# Altium footprint library BAT54JFILM.PcbLib: 2 footprints
Each footprint in its own frame and in the unit in brackets; x right, y up, seen from the top. Pads: shape width x height; smd on the part's side, far side on the other; paste and mask are expansions set on the pad; w line width, h text height; cw(c..) or ccw(c..) is an arc to the next point about the centre after c.
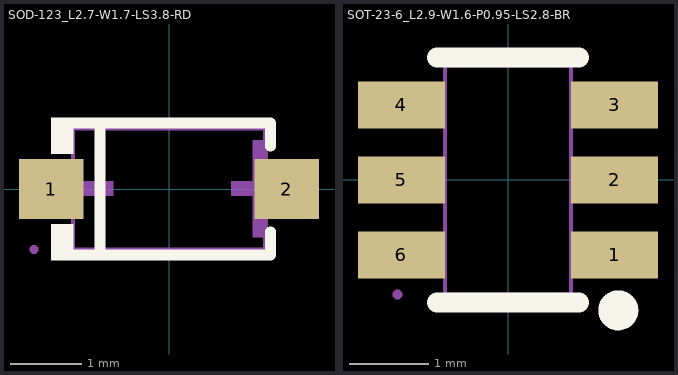
[diagram p0: the footprints below, top view; thin cyan lines are the x and y axes]

## SOD-123_L2.7-W1.7-LS3.8-RD [mm]
pads (2):
  rect 0.91x0.84 smd mask+0.102: 1(-1.655,0) 2(1.655,0)
Top Overlay:
  region: -1.35,-0.496 -1.655,-0.496 -1.655,-1.002 -1.35,-1.002
  region: -1.35,0.496 -1.655,0.496 -1.655,1.002 -1.35,1.002
  lines w0.152: -1.426,-0.926 1.426,-0.926 1.426,-0.6 ; -1.426,0.926 1.426,0.926 1.426,0.6 ; -0.971,-0.926 -0.971,0.926
Mechanical 6:
  region: -1.602,0.107 -1.602,-0.097 -0.786,-0.097 -0.786,0.107
  region: 1.386,0.685 1.386,-0.675 1.182,-0.675 1.182,0.685
  region: 1.692,0.107 1.692,-0.097 0.876,-0.097 0.876,0.107
Mechanical 15:
  region: -1.84,-0.85 -1.84,-0.825 -1.875,-0.79 -1.925,-0.79 -1.96,-0.825 -1.96,-0.85 -1.96,-0.875 -1.925,-0.91 -1.875,-0.91 -1.84,-0.875 -1.84,-0.85
  region: -1.9,-0.3 -1.55,-0.3 -1.55,0.3 -1.9,0.3
  region: -1.56,-0.3 -1.34,-0.3 -1.34,0.3 -1.56,0.3
  region: 1.9,-0.3 1.55,-0.3 1.55,0.3 1.9,0.3
  region: 1.56,-0.3 1.34,-0.3 1.34,0.3 1.56,0.3
  lines w0.051: -1.35,-0.85 1.35,-0.85 1.35,0.85 -1.35,0.85 -1.35,-0.85
3D body "step_temp.STEP": height 1.17, standoff 0, extent -1.25,-0.64 1.25,0.64

## SOT-23-6_L2.9-W1.6-P0.95-LS2.8-BR [mm]
pads (6):
  rect 1.1x0.6 smd paste+0 mask+0.051: 1(1.35,-0.95) 2(1.35,0) 3(1.35,0.95) 4(-1.35,0.95) 5(-1.35,0) 6(-1.35,-0.95)
Top Overlay:
  circle w0.254: c1.397,-1.651 r0.127
  lines w0.254: -0.9,-1.55 0.9,-1.55 ; -0.9,1.55 0.9,1.55
Mechanical 6:
  circle w0.2: c1.4,-0.95 r0.1
Mechanical 15:
  region: -1.34,-1.45 -1.34,-1.425 -1.375,-1.39 -1.425,-1.39 -1.46,-1.425 -1.46,-1.45 -1.46,-1.475 -1.425,-1.51 -1.375,-1.51 -1.34,-1.475 -1.34,-1.45
  region: -0.925,-1.165 -0.925,-0.735 -1.4,-0.735 -1.4,-1.165
  region: -0.925,-0.215 -0.925,0.215 -1.4,0.215 -1.4,-0.215
  region: -0.925,0.735 -0.925,1.165 -1.4,1.165 -1.4,0.735
  region: -0.935,0.735 -0.935,1.165 -0.79,1.165 -0.79,0.735
  region: 0.925,0.735 0.925,1.165 1.4,1.165 1.4,0.735
  region: 0.925,-0.215 0.925,0.215 1.4,0.215 1.4,-0.215
  region: 0.925,-1.165 0.925,-0.735 1.4,-0.735 1.4,-1.165
  region: -0.935,-0.215 -0.935,0.215 -0.79,0.215 -0.79,-0.215
  region: -0.935,-1.165 -0.935,-0.735 -0.79,-0.735 -0.79,-1.165
  region: 0.935,-0.735 0.935,-1.165 0.79,-1.165 0.79,-0.735
  region: 0.935,0.215 0.935,-0.215 0.79,-0.215 0.79,0.215
  region: 0.935,1.165 0.935,0.735 0.79,0.735 0.79,1.165
  lines w0.051: -0.8,-1.45 -0.8,1.45 0.8,1.45 0.8,-1.45 -0.8,-1.45
3D body "User Library-SOT23-6-2.SLDPRT": height 1.45, standoff 0, extent -1.4,-1.45 1.4,1.45